# Altium footprint library TFCR0603-10W-E-1001BT-1K.PcbLib: 3 footprints
Each footprint in its own frame and in the unit in brackets; x right, y up, seen from the top. Pads: shape width x height; smd on the part's side, far side on the other; paste and mask are expansions set on the pad; w line width, h text height; cw(c..) or ccw(c..) is an arc to the next point about the centre after c.
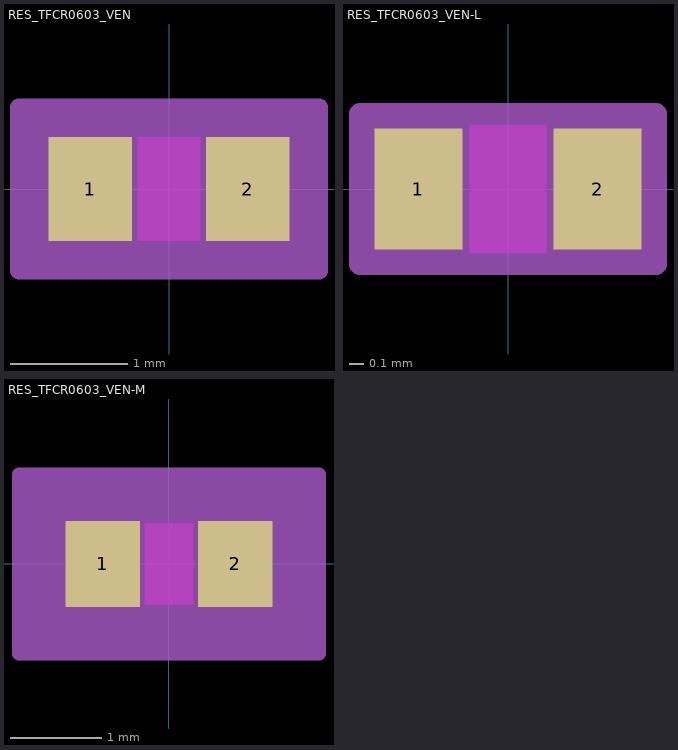
[diagram p0: the footprints below, top view; thin cyan lines are the x and y axes]

## RES_TFCR0603_VEN [mil]
pads (2):
  rect 28x35 smd paste+0 mask+0: 1(-26.5,0) 2(26.5,0)
Top Layer keep-out:
  region: -10.5,-15.5 -10.5,15.5 10.5,15.5 10.5,-15.5
Top Overlay:
  text ".Designator" at -137.5,-25 h50
Keep-Out Layer:
  region: -10.5,-17.5 -10.5,17.5 10.5,17.5 10.5,-17.5
Mechanical 13:
  lines w1: -32.5,-17.5 -32.5,17.5 ; -32.5,-17.5 -12.5,-17.5 -12.5,17.5 -32.5,17.5 ; -32.5,-17.5 32.5,-17.5 ; -32.5,-17.5 -32.5,17.5 ; -32.5,17.5 32.5,17.5 ; 32.5,-17.5 12.5,-17.5 12.5,17.5 32.5,17.5 ; 32.5,-17.5 32.5,17.5 ; 32.5,-17.5 32.5,17.5
  text ".Designator" at -137.5,-25 h50
Mechanical 15:
  region: 50.5,-27.5 -50.5,-27.5 -50.5,27.5 50.5,27.5
  lines w6: -50.5,-27.5 -50.5,27.5 50.5,27.5 50.5,-27.5 -50.5,-27.5
3D body "RES_TFCR0603_VEN.step": height 22.01, standoff 0, extent -32.52,-17.48 32.52,17.48

## RES_TFCR0603_VEN-L [mil]
pads (2):
  rect 24x33 smd paste+0 mask+0: 1(-24.5,0) 2(24.5,0)
Top Layer keep-out:
  region: -10.5,-15.5 -10.5,15.5 10.5,15.5 10.5,-15.5
Top Overlay:
  text ".Designator" at -137.5,-25 h50
Keep-Out Layer:
  region: -10.5,-17.5 -10.5,17.5 10.5,17.5 10.5,-17.5
Mechanical 13:
  lines w1: -32.5,-17.5 -32.5,17.5 ; -32.5,-17.5 -12.5,-17.5 -12.5,17.5 -32.5,17.5 ; -32.5,-17.5 32.5,-17.5 ; -32.5,-17.5 -32.5,17.5 ; -32.5,17.5 32.5,17.5 ; 32.5,-17.5 12.5,-17.5 12.5,17.5 32.5,17.5 ; 32.5,-17.5 32.5,17.5 ; 32.5,-17.5 32.5,17.5
  text ".Designator" at -137.5,-25 h50
Mechanical 15:
  region: 40.5,-20.5 -40.5,-20.5 -40.5,20.5 40.5,20.5
  lines w6: -40.5,-20.5 -40.5,20.5 40.5,20.5 40.5,-20.5 -40.5,-20.5
3D body "RES_TFCR0603_VEN.step": height 22.01, standoff 0, extent -32.52,-17.48 32.52,17.48

## RES_TFCR0603_VEN-M [mil]
pads (2):
  rect 32x37 smd paste+0 mask+0: 1(-28.5,0) 2(28.5,0)
Top Layer keep-out:
  region: -10.5,-15.5 -10.5,15.5 10.5,15.5 10.5,-15.5
Top Overlay:
  text ".Designator" at -137.5,-25 h50
Keep-Out Layer:
  region: -10.5,-17.5 -10.5,17.5 10.5,17.5 10.5,-17.5
Mechanical 13:
  lines w1: -32.5,-17.5 -32.5,17.5 ; -32.5,-17.5 -12.5,-17.5 -12.5,17.5 -32.5,17.5 ; -32.5,-17.5 32.5,-17.5 ; -32.5,-17.5 -32.5,17.5 ; -32.5,17.5 32.5,17.5 ; 32.5,-17.5 12.5,-17.5 12.5,17.5 32.5,17.5 ; 32.5,-17.5 32.5,17.5 ; 32.5,-17.5 32.5,17.5
  text ".Designator" at -137.5,-25 h50
Mechanical 15:
  region: 64.5,-38.5 -64.5,-38.5 -64.5,38.5 64.5,38.5
  lines w6: -64.5,-38.5 -64.5,38.5 64.5,38.5 64.5,-38.5 -64.5,-38.5
3D body "RES_TFCR0603_VEN.step": height 22.01, standoff 0, extent -32.52,-17.48 32.52,17.48